# EAGLE library part SYBD-30-62HP+ (library kj4qlp)
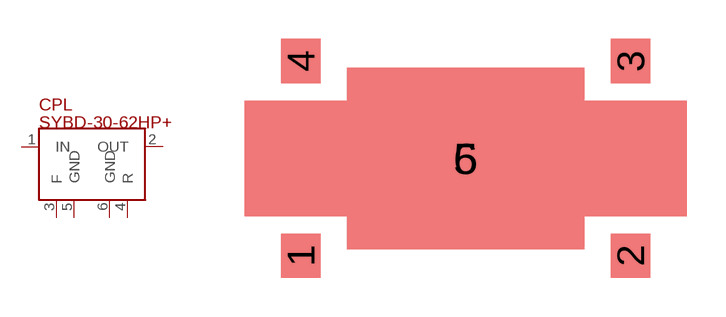
[diagram p6: symbol with the pads of SYBD-30-62HP+; footprint SYBD-30-62HP+]

Designator prefix CPL

## SYBD-30-62HP+  [SYBD-30-62HP+]
1  IN
2  OUT
3  F
4  R
5  GND
6  GND

## Footprint SYBD-30-62HP+ (pad centres in mm)
smd 1.524 x 1.702: 1 -6.35,-3.747; 2 6.35,-3.747; 3 6.35,3.747; 4 -6.35,3.747
smd 17.018 x 4.445: 5 0,0
smd 9.144 x 6.985: 6 0,0